# Altium footprint library yangliwei.PcbLib: 37 footprints (part 2 of 3)
Each footprint in its own frame and in the unit in brackets; x right, y up, seen from the top. Pads: shape width x height; smd on the part's side, far side on the other; paste and mask are expansions set on the pad; w line width, h text height; cw(c..) or ccw(c..) is an arc to the next point about the centre after c.
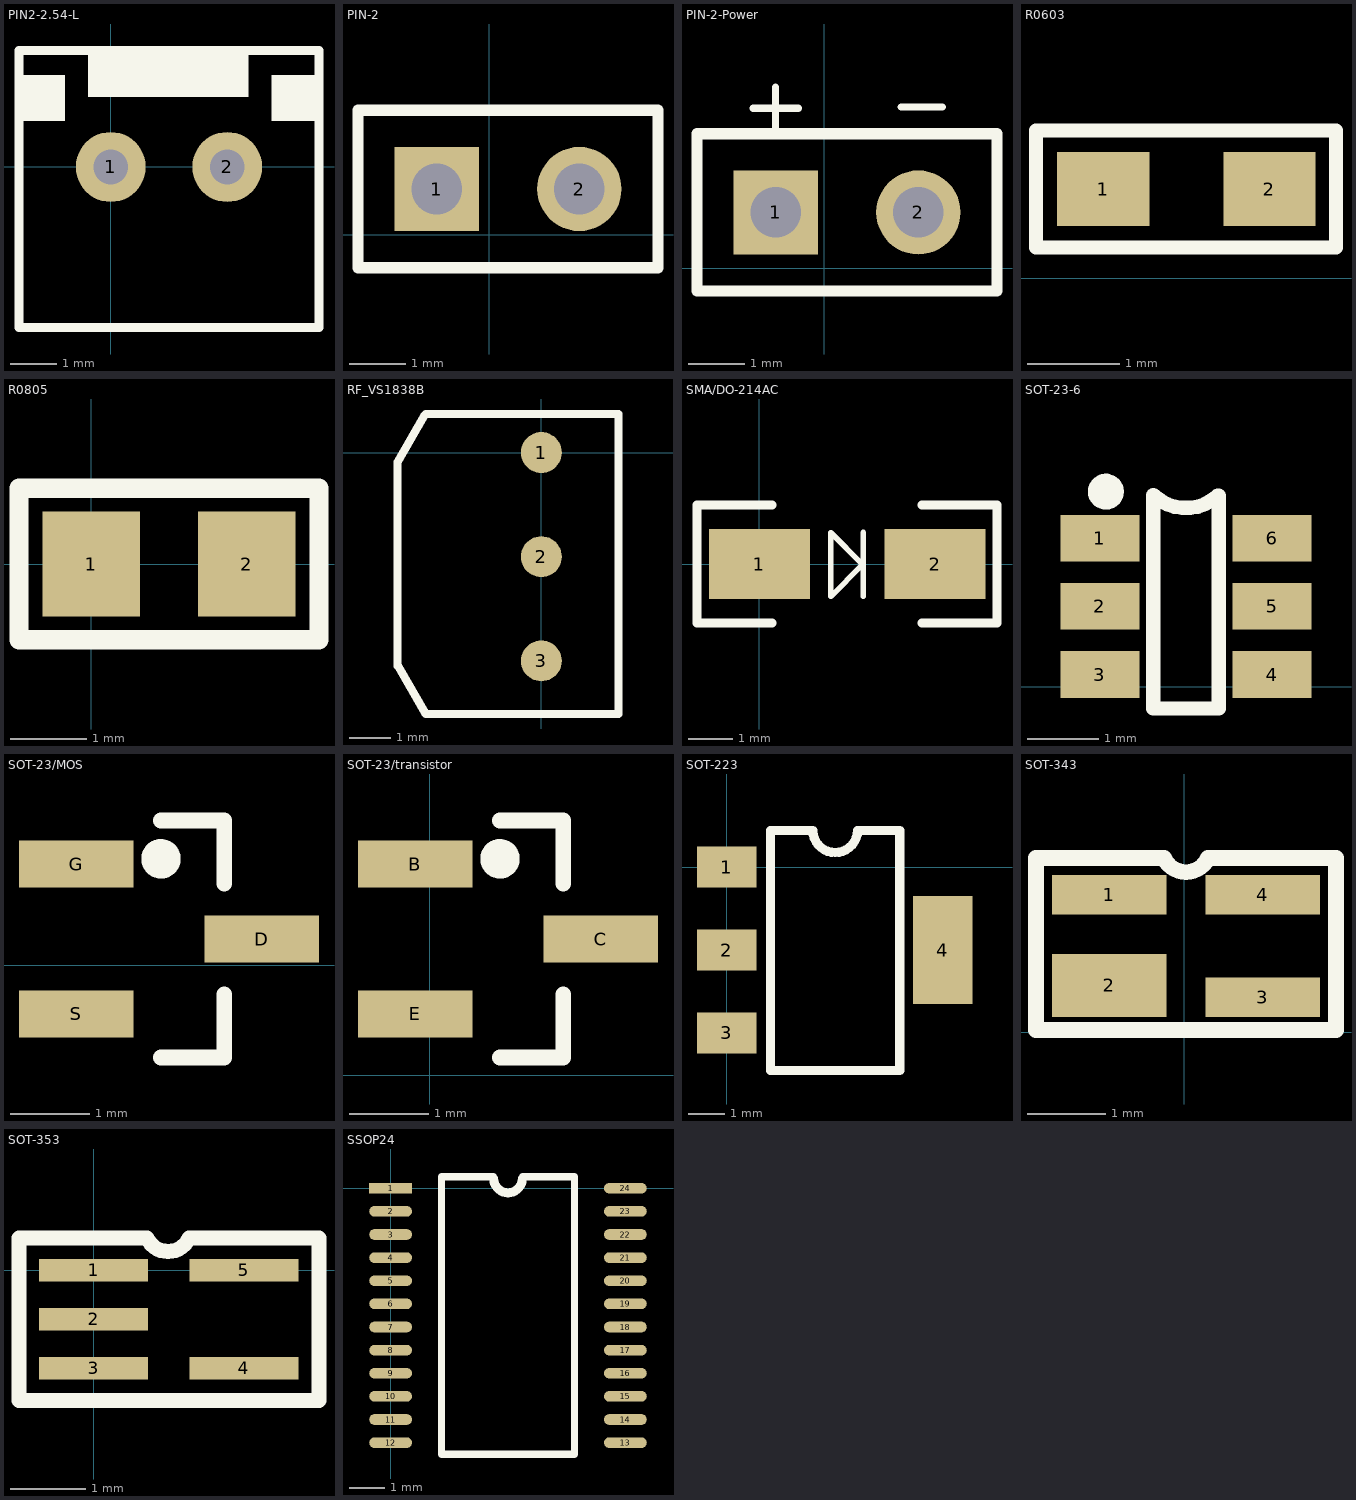
[diagram p1: the footprints below, top view; thin cyan lines are the x and y axes]

## PCBComponent_1 [mm]

## PCBComponent_1 - duplicate [mm]

## PIN2-2.54-L [mil] "PIN2 2.54 Large"
pads (2):
  round 60 hole 30: 1(0,0) 2(100,0)
Top Overlay:
  rectangle: -19.68,60 118.11,98.43
  rectangle: -78.74,39.37 -39.37,78.74
  rectangle: 137.8,39.37 177.17,78.74
  lines w7.87: -78.74,-137.8 178.74,-137.8 178.74,100 -78.74,100 -78.74,-137.8

## PIN-2 [mm] "PIN-2"
pads (2):
  rect 1.5x1.5 hole 0.9: 1(-0.94,0.813)
  round 1.5 hole 0.9: 2(1.6,0.813)
Top Overlay:
  lines w0.2: -2.34,-0.587 3,-0.587 3,2.213 -2.34,2.213 -2.34,-0.587

## PIN-2-Power [mm] "PIN-2 for Power"
pads (2):
  rect 1.5x1.5 hole 0.9: 1(-0.864,0.991)
  round 1.5 hole 0.9: 2(1.676,0.991)
Top Overlay:
  lines w0.127: -1.27,2.845 -0.457,2.845 ; -0.864,2.515 -0.864,3.226 ; 1.372,2.87 2.108,2.87
  lines w0.2: -2.264,-0.409 -2.264,2.391 3.076,2.391 3.076,-0.409 -2.264,-0.409

## R0603 [mm] "Resister 0603"
pads (2):
  rect 1x0.8 smd: 1(3.397,0.965) 2(5.197,0.965)
Top Overlay:
  lines w0.15: 2.667,0.33 5.918,0.33 5.918,1.6 2.667,1.6 2.667,0.33
3D body "SW3dPS-R0603.STEP": height 0.37, standoff 0, extent 3.467,0.564 5.067,1.366

## R0805 [mil] "Resister 0805"
pads (2):
  rect 50x54 smd: 1(0,0) 2(80,0)
Top Overlay:
  lines w10: -37,-39 -37,39 117,39 117,-39 -37,-39
3D body "User Library-RES_2013-0805.STEP": height 29.92, standoff 0, extent -7.27,-26.57 83.28,26.58

## RF_VS1838B [mm] "RF receiver"
height 8
pads (3):
  round 1 all layers, no hole: 1(0,0) 2(0,-2.54) 3(0,-5.08)
Top Overlay:
  lines w0.2: -3.505,-5.202 -3.505,-0.233 -2.846,0.909 ; -3.497,-5.202 -2.819,-6.375 1.88,-6.375 1.88,0.889 1.88,0.94 -2.819,0.94

## SMA/DO-214AC [mm] "SMA/DO-214AC"
pads (2):
  rect 2.3x1.6 smd: 1(0,0) 2(4,0)
Top Overlay:
  lines w0.127: 2.362,-0.737 2.362,0.718 ; 1.626,-0.737 1.626,0.711 2.337,0 2.337,-0.025 1.626,-0.737
  lines w0.2: -1.422,-1.346 0.286,-1.346 ; -1.422,-1.321 -1.422,1.346 0.286,1.346 ; 3.702,-1.346 5.41,-1.346 ; 3.702,1.346 5.41,1.346 5.41,-1.321
3D body "User Library-DO-214AC(SMA).STEP": height 1.14, standoff -1.14, extent -0.737,-1.397 4.75,1.397

## SOT-23-6 [mm] "SOT-23-6"
pads (6):
  rect 1.1x0.65 smd: 1(3.677,2.068) 2(3.677,1.118) 3(3.677,0.168) 4(6.077,0.168) 5(6.077,1.118) 6(6.077,2.068)
Top Overlay:
  circle w0.25: c3.759,2.718 r0.125
  lines w0.2: 4.42,2.668 4.42,-0.305 5.334,-0.305 5.334,2.658 ; 4.433,2.662 ccw(c4.876,3.145) 5.321,2.663
3D body "SW3dPS-SOT-23-6.STEP": height 1.09, standoff 0, extent 3.683,-0.292 6.109,2.502

## SOT-23/MOS [mm] "SOT-23 for Mos"
pads (3):
  rect 1.45x0.6 smd: D(7.017,0.33) G(4.667,1.28) S(4.667,-0.62)
Top Overlay:
  circle w0.25: c5.74,1.346 r0.125
  lines w0.2: 5.742,-1.17 6.542,-1.17 6.542,-0.37 ; 5.742,1.83 6.542,1.83 6.542,1.03
3D body "User Library-SOT23-3.STEP": height 1.3, standoff 0, extent 4.442,-1.145 7.242,1.755

## SOT-23/transistor [mm] "SOT-23 for transistor"
pads (3):
  rect 1.45x0.6 smd: B(-0.184,2.677) C(2.166,1.727) E(-0.184,0.777)
Top Overlay:
  circle w0.25: c0.889,2.743 r0.125
  lines w0.2: 0.891,0.227 1.691,0.227 1.691,1.027 ; 0.891,3.227 1.691,3.227 1.691,2.427
3D body "User Library-SOT23-3.STEP": height 1.3, standoff 0, extent -0.384,0.277 2.416,3.177

## SOT-223 [mm] "SOT-223"
height 3
pads (4):
  rect 1.65x1.14 smd: 1(0,0) 2(0,-2.3) 3(0,-4.6)
  rect 1.65x3 smd: 4(6,-2.3)
Top Overlay:
  lines w0.254: 1.219,-5.639 4.801,-5.639 4.801,1.016 3.632,1.016 cw(c3.01,1.029) 2.388,1.016 1.219,1.016 1.219,-5.639

## SOT-343 [mm] "SOT-343"
pads (4):
  rect 1.45x0.5 smd: 1(-0.95,1.742) 3(1,0.442) 4(1,1.742)
  rect 1.45x0.8 smd: 2(-0.95,0.592)
Top Overlay:
  lines w0.2: -1.88,0.025 1.93,0.025 1.93,2.21 0.305,2.21 cw(c0.025,2.339) -0.254,2.21 -1.88,2.21 -1.88,0.025
3D body "User Library-SOT343-1.STEP": height 1, standoff 0, extent -1.067,-0.008 1.133,2.192

## SOT-353 [mm] "SOT-353 SC-70 5L"
pads (5):
  rect 1.45x0.3 smd: 1(0,0) 2(0,-0.65) 3(0,-1.3) 4(2,-1.3) 5(2,0)
Top Overlay:
  lines w0.2: -0.991,0.381 -0.991,-1.727 2.997,-1.727 2.997,0.381 ; -0.991,0.432 0.711,0.432 ; 0.711,0.43 ccw(c0.991,0.559) 1.27,0.43 ; 1.27,0.432 2.997,0.432
3D body "User Library-SOT353-1.STEP": height 1.1, standoff 0, extent -0.133,-1.76 2.267,0.44

## SSOP24 [mm] "SSOP24"
pads (24):
  rect 1.2x0.3 smd: 1(0,0)
  oval 1.2x0.3 smd: 2(0,-0.65) 3(0,-1.3) 4(0,-1.95) 5(0,-2.6) 6(0,-3.25) 7(0,-3.9) 8(0,-4.55) 9(0,-5.2) 10(0,-5.85) 11(0,-6.5) 12(0,-7.15) 13(6.6,-7.15) 14(6.6,-6.5) 15(6.6,-5.85) 16(6.6,-5.2) 17(6.6,-4.55) 18(6.6,-3.9) 19(6.6,-3.25) 20(6.6,-2.6) 21(6.6,-1.95) 22(6.6,-1.3) 23(6.6,-0.65) 24(6.6,0)
Top Overlay:
  lines w0.2: 2.896,0.325 1.435,0.325 1.435,-7.475 5.165,-7.475 5.165,0.325 3.704,0.325
  lines w0.254: 2.896,0.274 ccw(c3.3,0.277) 3.704,0.274